# Altium schematic symbol library JLCPCB_UC_STM_SMD.SchLib: 1 symbol
Pins are listed as number, name and electrical type; pins without a type are passive.

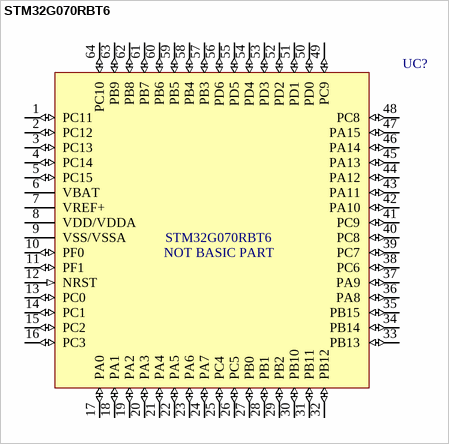
[diagram p0: symbol STM32G070RBT6]

## STM32G070RBT6
designator UC?, comment Basic: NOT BASIC PART  MFR_Part#: STM32G070RBT6  (hidden comment: Microcontroller)
LQFP-64 ST Microelectronics RoHS; ComponentLink1Description: Datasheet; ComponentLink1URL: https://www.st.com/resource/en/datasheet/stm32g070rb.pdf; JLCPCB_Part#: C529340; Manufacturer: STMicroelectronics; Package: LQFP-64_10.0x10.0x0.5P
footprint LQFP50P1200X1200X160-64L (LQFP, 64-Leads, Body 10,00x10,00mm, Pitch 0,50mm, IPC High Density)
pins: 1 PC11 (io), 2 PC12 (io), 3 PC13 (io), 4 PC14 (io), 5 PC15 (io), 6 VBAT (power), 7 VREF+ (power), 8 VDD/VDDA (power), 9 VSS/VSSA (power), 10 PF0 (io), 11 PF1 (io), 12 NRST (in), 13 PC0 (io), 14 PC1 (io), 15 PC2 (io), 16 PC3 (io), 17 PA0 (io), 18 PA1 (io), 19 PA2 (io), 20 PA3 (io), 21 PA4 (io), 22 PA5 (io), 23 PA6 (io), 24 PA7 (io), 25 PC4 (io), 26 PC5 (io), 27 PB0 (io), 28 PB1 (io), 29 PB2 (io), 30 PB10 (io), 31 PB11 (io), 32 PB12 (io), 33 PB13 (io), 34 PB14 (io), 35 PB15 (io), 36 PA8 (io), 37 PA9 (io), 38 PC6 (io), 39 PC7 (io), 40 PC8 (io), 41 PC9 (io), 42 PA10 (io), 43 PA11 (io), 44 PA12 (io), 45 PA13 (io), 46 PA14 (io), 47 PA15 (io), 48 PC8 (io), 49 PC9 (io), 50 PD0 (io), 51 PD1 (io), 52 PD2 (io), 53 PD3 (io), 54 PD4 (io), 55 PD5 (io), 56 PD6 (io), 57 PB3 (io), 58 PB4 (io), 59 PB5 (io), 60 PB6 (io), 61 PB7 (io), 62 PB8 (io), 63 PB9 (io), 64 PC10 (io)